# Altium footprint library STISO621TR.PcbLib: 1 footprints
Each footprint in its own frame and in the unit in brackets; x right, y up, seen from the top. Pads: shape width x height; smd on the part's side, far side on the other; paste and mask are expansions set on the pad; w line width, h text height; cw(c..) or ccw(c..) is an arc to the next point about the centre after c.
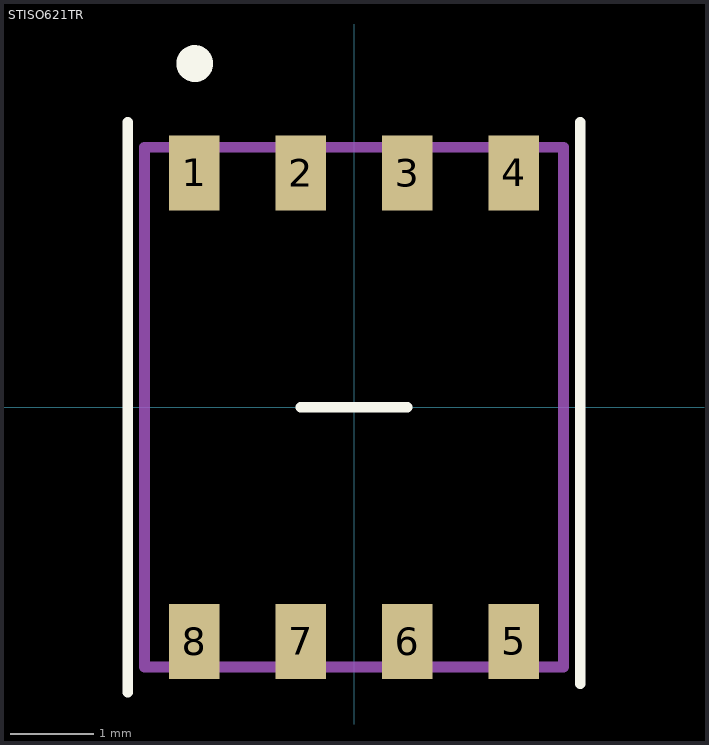
[diagram p0: the footprint, top view; thin cyan lines are the x and y axes]

## STISO621TR [mm]
pads (8):
  rect 0.6x0.9 smd mask+0.1: 1(-1.905,2.795) 2(-0.635,2.795) 3(0.635,2.795) 4(1.905,2.795) 5(1.905,-2.795) 6(0.635,-2.795) 7(-0.635,-2.795) 8(-1.905,-2.795)
Top Overlay:
  circle w0.254: c-1.9,4.1 r0.093
  lines w0.127: -2.7,-3.4 -2.7,3.4 ; -0.635,0 0.635,0 ; 2.7,-3.3 2.7,3.4
Mechanical 13:
  lines w0.127: -2.5,-3.1 2.5,-3.1 2.5,3.1 -2.5,3.1 -2.5,-3.1
3D body "SOIC08 narrow.stp": height 2, standoff 0, extent -2.5,-3.082 2.5,3.082